# Altium footprint library SparkFun-Sensors.PCBLIB: 114 footprints (part 8 of 8)
Each footprint in its own frame and in the unit in brackets; x right, y up, seen from the top. Pads: shape width x height; smd on the part's side, far side on the other; paste and mask are expansions set on the pad; w line width, h text height; cw(c..) or ccw(c..) is an arc to the next point about the centre after c.
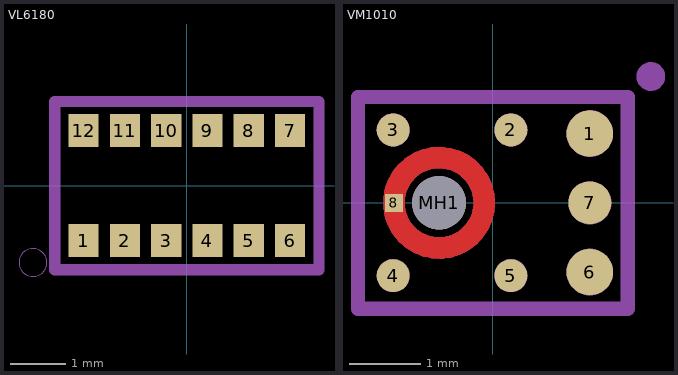
[diagram p7: the footprints below, top view; thin cyan lines are the x and y axes]

## VL6180 [mm]
pads (12):
  rect 0.55x0.6 smd paste+0: 1(-1.875,-1) 2(-1.125,-1) 3(-0.375,-1) 4(0.375,-1) 5(1.125,-1) 6(1.875,-1) 7(1.875,1) 8(1.125,1) 9(0.375,1) 10(-0.375,1) 11(-1.125,1) 12(-1.875,1)
Top Paste:
  drawing of 12 lines, arcs and shapes, not listed
tPlace:
  circle w0: c-2.794,-1.397 r0.254
  lines w0.203: -2.4,-1.527 2.4,-1.527 2.4,1.527 -2.4,1.527 -2.4,-1.527

## VM1010 [mm]
pads (9):
  rrect100% 0.65x0.65 smd paste+0 mask+0: 1(1.35,0.965) 6(1.35,-0.965)
  rrect100% 0.46x0.46 smd paste+0 mask+0: 2(0.25,1.015) 3(-1.39,1.015) 4(-1.39,-1.015) 5(0.25,-1.015)
  rrect100% 0.6x0.6 smd paste+0 mask+0: 7(1.35,0)
  rect 0.25x0.25 smd paste+0 mask+0: 8(-1.38,0)
  round 0.75 hole 0.75 unplated: MH1(-0.75,0)
Top:
  circle w0.3: c-0.75,0 r0.63
Top Paste:
  circle w0.4: c1.35,0.965 r0.1
  circle w0.35: c1.35,0 r0.1
  circle w0.4: c1.35,-0.965 r0.1
  circle w0.21: c0.25,1.015 r0.1
  circle w0.21: c-1.39,1.015 r0.1
  circle w0.21: c-1.39,-1.015 r0.1
  circle w0.21: c0.25,-1.015 r0.1
  lines w0.2: -1.4,-0.175 ccw(c-0.75,0) -0.925,-0.65 ; -1.4,0.175 cw(c-0.75,0) -0.925,0.65 ; -0.575,-0.65 ccw(c-0.75,0) -0.1,-0.175 ; -0.575,0.65 cw(c-0.75,0) -0.1,0.175
Top Solder:
  circle w0.55: c1.35,0.965 r0.1
  circle w0.5: c1.35,0 r0.1
  circle w0.55: c1.35,-0.965 r0.1
  circle w0.36: c0.25,1.015 r0.1
  circle w0.83: c-0.75,0 r0.415
  circle w0.36: c-1.39,1.015 r0.1
  circle w0.36: c-1.39,-1.015 r0.1
  circle w0.36: c0.25,-1.015 r0.1
tDocu:
  circle w0.26: c-1.39,1.015 r0.1
  circle w0.26: c0.25,1.015 r0.1
  circle w0.45: c1.35,0.965 r0.1
  circle w0.4: c1.35,0 r0.1
  circle w0.45: c1.35,-0.965 r0.1
  circle w0.26: c0.25,-1.015 r0.1
  circle w0.26: c-1.39,-1.015 r0.1
  circle w0.3: c-0.75,0 r0.63
  lines w0.15: -1.88,-1.475 1.88,-1.475 1.88,1.475 -1.88,1.475 -1.88,-1.475
tPlace:
  circle w0.2: c2.2,1.76 r0.1
  lines w0.2: -1.88,-1.475 1.88,-1.475 1.88,1.475 -1.88,1.475 -1.88,-1.475